# Altium footprint library EMK316BJ106KL8T.PcbLib: 4 footprints
Each footprint in its own frame and in the unit in brackets; x right, y up, seen from the top. Pads: shape width x height; smd on the part's side, far side on the other; paste and mask are expansions set on the pad; w line width, h text height; cw(c..) or ccw(c..) is an arc to the next point about the centre after c.
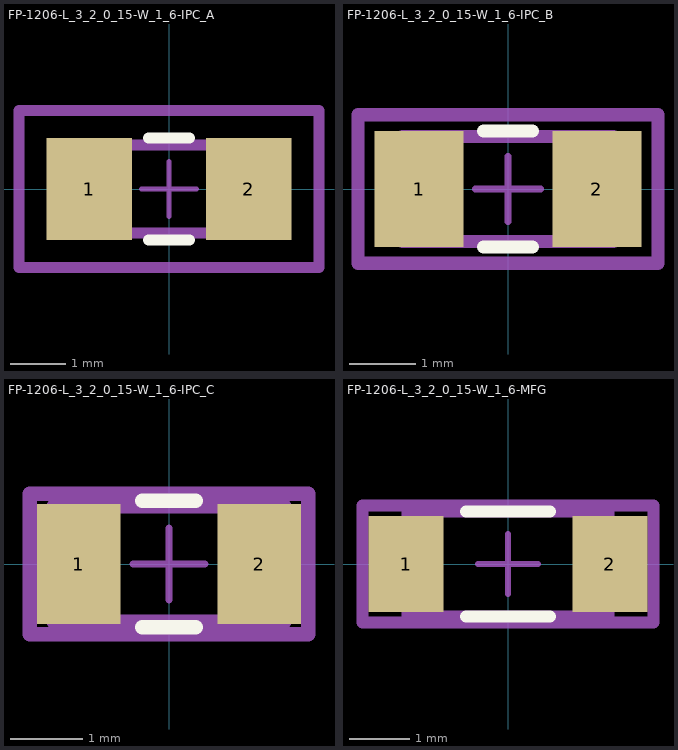
[diagram p0: the footprints below, top view; thin cyan lines are the x and y axes]

## FP-1206-L_3_2_0_15-W_1_6-IPC_A [mm]
pads (2):
  rect 1.555x1.858 smd paste+0 mask+0: 1(-1.451,0) 2(1.451,0)
Top Overlay:
  lines w0.2: -0.374,-0.929 0.374,-0.929 ; -0.374,0.929 0.374,0.929
Mechanical 5:
  lines w0.2: -2.729,-1.429 2.729,-1.429 2.729,1.429 -2.729,1.429 -2.729,-1.429
  text ".Designator" at 0,0.188 h1
Mechanical 13:
  lines w0.2: -1.6,-0.8 1.6,-0.8 1.6,0.8 -1.6,0.8 -1.6,-0.8
Mechanical 15:
  lines w0.2: -2.729,-1.429 2.729,-1.429 2.729,1.429 -2.729,1.429 -2.729,-1.429
Mechanical 16:
  lines w0.1: -0.5,0 0.5,0 ; 0,-0.5 0,0.5
3D body "Cap_Taiyo_Yuden_TMF316B7104KLHT_eec.STEP": height 0.25, standoff 0, extent -2.729,-1.429 2.729,1.429

## FP-1206-L_3_2_0_15-W_1_6-IPC_B [mm]
pads (2):
  rect 1.355x1.758 smd paste+0 mask+0: 1(-1.351,0) 2(1.351,0)
Top Overlay:
  lines w0.2: -0.374,-0.879 0.374,-0.879 ; -0.374,0.879 0.374,0.879
Mechanical 5:
  lines w0.2: -2.279,-1.129 2.279,-1.129 2.279,1.129 -2.279,1.129 -2.279,-1.129
  text ".Designator" at 0,0.188 h1
Mechanical 13:
  lines w0.2: -1.6,-0.8 1.6,-0.8 1.6,0.8 -1.6,0.8 -1.6,-0.8
Mechanical 15:
  lines w0.2: -2.279,-1.129 2.279,-1.129 2.279,1.129 -2.279,1.129 -2.279,-1.129
Mechanical 16:
  lines w0.1: -0.5,0 0.5,0 ; 0,-0.5 0,0.5
3D body "Cap_Taiyo_Yuden_TMF316B7104KLHT_eec.STEP": height 0.25, standoff 0, extent -2.279,-1.129 2.279,1.129

## FP-1206-L_3_2_0_15-W_1_6-IPC_C [mm]
pads (2):
  rect 1.155x1.658 smd paste+0 mask+0: 1(-1.251,0) 2(1.251,0)
Top Overlay:
  lines w0.2: -0.374,-0.875 0.374,-0.875 ; -0.374,0.875 0.374,0.875
Mechanical 5:
  lines w0.2: -1.929,-0.975 1.929,-0.975 1.929,0.975 -1.929,0.975 -1.929,-0.975
  text ".Designator" at 0,0.188 h1
Mechanical 13:
  lines w0.2: -1.6,-0.8 1.6,-0.8 1.6,0.8 -1.6,0.8 -1.6,-0.8
Mechanical 15:
  lines w0.2: -1.929,-0.975 1.929,-0.975 1.929,0.975 -1.929,0.975 -1.929,-0.975
Mechanical 16:
  lines w0.1: -0.5,0 0.5,0 ; 0,-0.5 0,0.5
3D body "Cap_Taiyo_Yuden_TMF316B7104KLHT_eec.STEP": height 0.25, standoff 0, extent -1.929,-0.975 1.929,0.975

## FP-1206-L_3_2_0_15-W_1_6-MFG [mm]
pads (2):
  rect 1.25x1.6 smd paste+0 mask+0: 1(-1.7,0) 2(1.7,0)
Top Overlay:
  lines w0.2: -0.7,-0.875 0.7,-0.875 ; -0.7,0.875 0.7,0.875
Mechanical 5:
  lines w0.2: -2.425,-0.975 2.425,-0.975 2.425,0.975 -2.425,0.975 -2.425,-0.975
  text ".Designator" at 0,0.188 h1
Mechanical 13:
  lines w0.2: -1.675,-0.875 1.675,-0.875 1.675,0.875 -1.675,0.875 -1.675,-0.875
Mechanical 15:
  lines w0.2: -2.425,-0.975 2.425,-0.975 2.425,0.975 -2.425,0.975 -2.425,-0.975
Mechanical 16:
  lines w0.1: -0.5,0 0.5,0 ; 0,-0.5 0,0.5
3D body "Cap_Taiyo_Yuden_TMF316B7104KLHT_eec.STEP": height 0.25, standoff 0, extent -2.425,-0.975 2.425,0.975